# EAGLE library part 43045-10 (library con-molex-custom)
DigiKey http://www.digikey.com/scripts/dksearch/dksus.dll?k=43045-10&vendor=0&mnonly=0&newproducts=0&ptm=0&fid=0&quantity=0&PV69=367 Datasheet http://rhu004.sma-promail.com/SQLImages/kelmscott/Molex/PDF_Images/USA-106.pdf
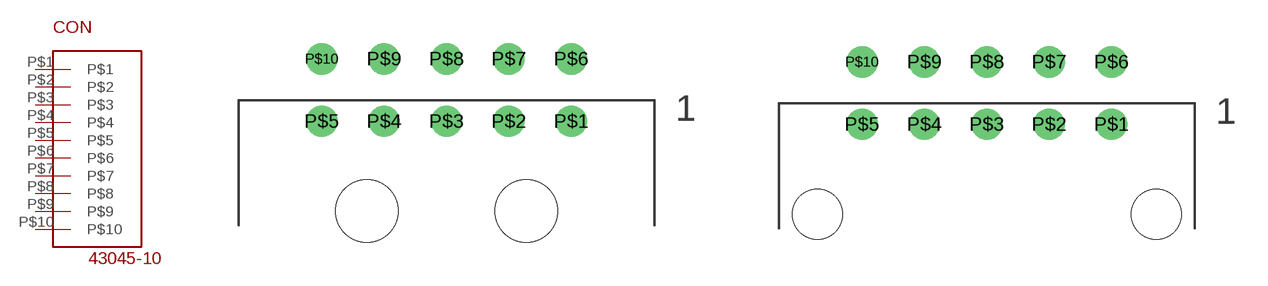
[diagram p0: symbol with the pads of 43045-100; footprints 43045-100, 43045-102]

Designator prefix CON

## 43045-1000 (FINISH: Tin 100µin; MOUNT: Right Angle; RETENTION: Plastic Peg; TERM: Through Hole)  [43045-100]
P$1  P$1  pas
P$2  P$2  pas
P$3  P$3  pas
P$4  P$4  pas
P$5  P$5  pas
P$6  P$6  pas
P$7  P$7  pas
P$8  P$8  pas
P$9  P$9  pas
P$10  P$10  pas

## 43045-1001 (FINISH: Gold 15µin; MOUNT: Right Angle; RETENTION: Plastic Peg; TERM: Through Hole)  [43045-100]
Pads as for 43045-100

## 43045-1002 (FINISH: Gold 30µin; MOUNT: Right Angle; RETENTION: Plastic Peg; TERM: Through Hole)  [43045-100]
Pads as for 43045-100

## 43045-1021 (FINISH: Tin 100µin; MOUNT: Right Angle; RETENTION: Solderable Clips; TERM: Through Hole)  [43045-102]
Pads as for 43045-100

## 43045-1022 (FINISH: Gold 15µin; MOUNT: Right Angle; RETENTION: Solderable Clipss; TERM: Through Hole)  [43045-102]
Pads as for 43045-100

## 43045-1023 (FINISH: Gold 30µin; MOUNT: Right Angle; RETENTION: Solderable Clips; TERM: Through Hole)  [43045-102]
Pads as for 43045-100

## Footprint 43045-100 (pad centres in mm)
drill 1 round: P$1 6,0; P$2 3,0; P$3 0,0; P$4 -3,0; P$5 -6,0; P$6 6,3; P$7 3,3; P$8 0,3; P$9 -3,3; P$10 -6,3
hole 3 at 3.84,-4.32
hole 3 at -3.84,-4.32

## Footprint 43045-102 (pad centres in mm)
drill 1 round: P$1 6,0; P$2 3,0; P$3 0,0; P$4 -3,0; P$5 -6,0; P$6 6,3; P$7 3,3; P$8 0,3; P$9 -3,3; P$10 -6,3
hole 2.41 at 8.15,-4.32
hole 2.41 at -8.15,-4.32